# Altium schematic symbol library GSH_Bed.SchLib: 2 symbols
Pins are listed as number, name and electrical type; pins without a type are passive.

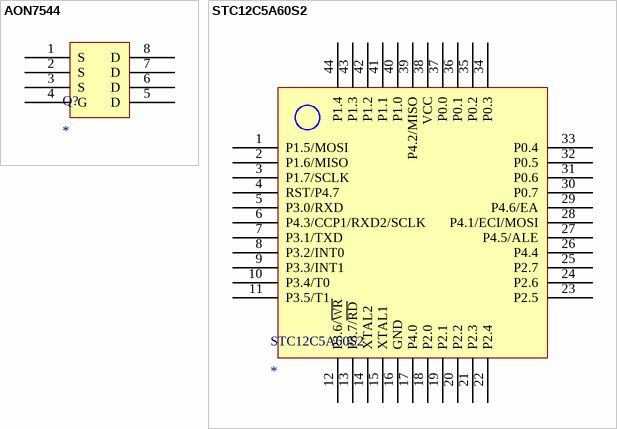
[diagram p0: symbols AON7544 to STC12C5A60S2]

## AON7544
designator Q?
n-mos
footprint AON7544 (N-MOS)
pins: 1 S, 2 S, 3 S, 4 G, 5 D, 6 D, 7 D, 8 D

## STC12C5A60S2
designator STC12C5A60S2
footprint LQFP44 10X10_L (44脚，体宽10x10mm，脚距0.8mm)
pins: 1 P1.5/MOSI, 2 P1.6/MISO, 3 P1.7/SCLK, 4 RST/P4.7, 5 P3.0/RXD, 6 P4.3/CCP1/RXD2/SCLK, 7 P3.1/TXD, 8 P3.2/INT0, 9 P3.3/INT1, 10 P3.4/T0, 11 P3.5/T1, 12 P3.6/~{WR}, 13 P3.7/~{RD}, 14 XTAL2, 15 XTAL1, 16 GND, 17 P4.0, 18 P2.0, 19 P2.1, 20 P2.2, 21 P2.3, 22 P2.4, 23 P2.5, 24 P2.6, 25 P2.7, 26 P4.4, 27 P4.5/ALE, 28 P4.1/ECI/MOSI, 29 P4.6/EA, 30 P0.7, 31 P0.6, 32 P0.5, 33 P0.4, 34 P0.3, 35 P0.2, 36 P0.1, 37 P0.0, 38 VCC, 39 P4.2/MISO, 40 P1.0, 41 P1.1, 42 P1.2, 43 P1.3, 44 P1.4